# Altium footprint library BD433M5FP-CE2.PcbLib: 1 footprints
Each footprint in its own frame and in the unit in brackets; x right, y up, seen from the top. Pads: shape width x height; smd on the part's side, far side on the other; paste and mask are expansions set on the pad; w line width, h text height; cw(c..) or ccw(c..) is an arc to the next point about the centre after c.
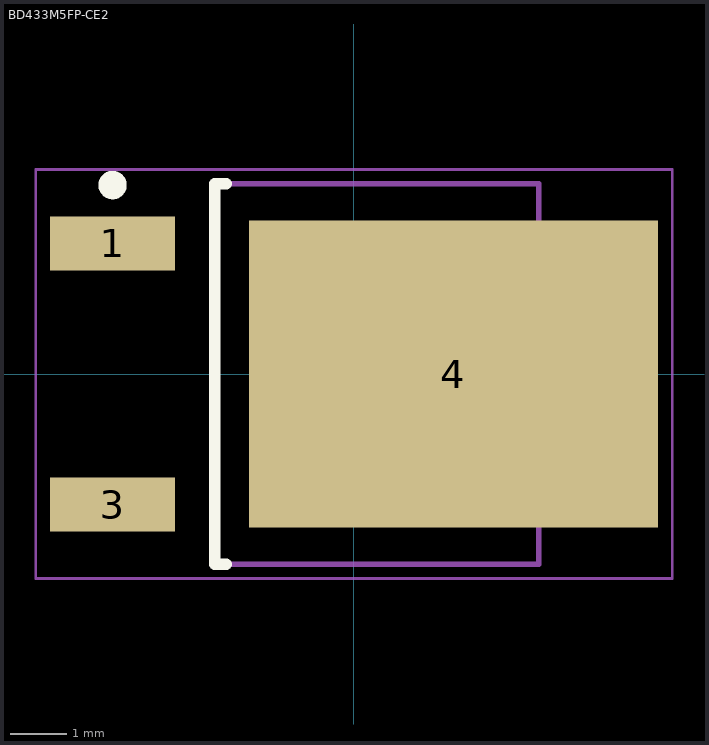
[diagram p0: the footprint, top view; thin cyan lines are the x and y axes]

## BD433M5FP-CE2 [mm] "D-PAK, 3-Pads, Body 5,95x6,71mm (max), IPC Medium Density"
height 2.5
pads (3):
  rect 2.2x0.95 smd: 1(-4.25,2.3) 3(-4.25,-2.3)
  rect 7.2x5.4 smd: 4(1.75,0)
Top Overlay:
  circle w0.25: c-4.25,3.325 r0.125
  lines w0.2: -2.25,-3.35 -2.45,-3.35 -2.45,3.35 -2.25,3.35
Mechanical 13:
  lines w0.1: -2.45,-3.35 3.25,-3.35 3.25,3.35 -2.45,3.35 -2.45,-3.35
Mechanical 15:
  lines w0.05: -5.6,-3.6 5.6,-3.6 5.6,3.6 -5.6,3.6 -5.6,-3.6
  lines w0.1: -0.5,0 0.5,0 ; 0,-0.5 0,0.5
3D body: height 2.5, standoff 0, extent -2.45,-3.35 3.25,3.35
3D body: height 0.6, standoff 0, extent 1.969,-2.667 4.89,2.667